# Altium footprint library PCB - LEADLESS - LGA - MAXIM 16-Pin uSLIC M1633+1.PcbLib: 1 footprints
Each footprint in its own frame and in the unit in brackets; x right, y up, seen from the top. Pads: shape width x height; smd on the part's side, far side on the other; paste and mask are expansions set on the pad; w line width, h text height; cw(c..) or ccw(c..) is an arc to the next point about the centre after c.
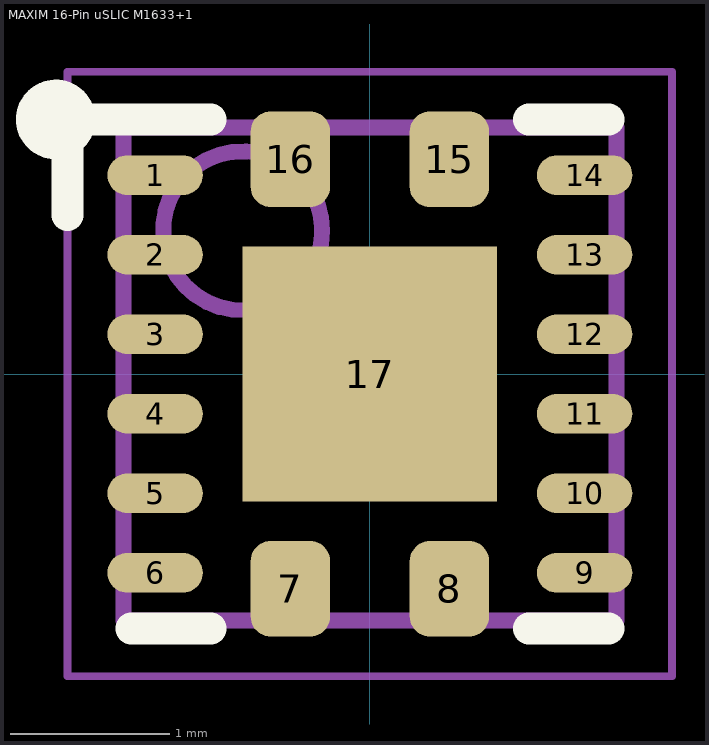
[diagram p0: the footprint, top view; thin cyan lines are the x and y axes]

## MAXIM 16-Pin uSLIC M1633+1 [mm] "16L eMGA, 3x3x31.55"
height 1.8
pads (17):
  oval 0.6x0.25 smd: 1(-1.35,1.25) 2(-1.35,0.75) 3(-1.35,0.25) 4(-1.35,-0.25) 5(-1.35,-0.75) 6(-1.35,-1.25) 9(1.35,-1.25) 10(1.35,-0.75) 11(1.35,-0.25) 12(1.35,0.25) 13(1.35,0.75) 14(1.35,1.25)
  rrect50% 0.5x0.6 smd: 7(-0.5,-1.35) 8(0.5,-1.35) 15(0.5,1.35) 16(-0.5,1.35)
  rect 1.6x1.6 smd: 17(0,0)
Top Overlay:
  circle w0.25: c-1.975,1.6 r0.125
  lines w0.2: -1.9,1 -1.9,1.6 -1.5,1.6 -1,1.6 ; -1.5,-1.6 -1,-1.6 ; 1,-1.6 1.5,-1.6 ; 1,1.6 1.5,1.6
Top Assembly:
  circle w0.1: c-0.8,0.9 r0.5
  lines w0.1: -1.55,-1.55 1.55,-1.55 1.55,1.55 -1.55,1.55 -1.55,-1.55
Top Courtyard:
  lines w0.05: -1.9,-1.9 1.9,-1.9 1.9,1.9 -1.9,1.9 -1.9,-1.9
  lines w0.1: -0.5,0 0.5,0 ; 0,-0.5 0,0.5
3D body "ANALOG DEVICES MAXM1763x.step": height 1.82, standoff 0, extent -1.525,-1.525 1.525,1.525